# EAGLE library part FT232R (library FT232R)
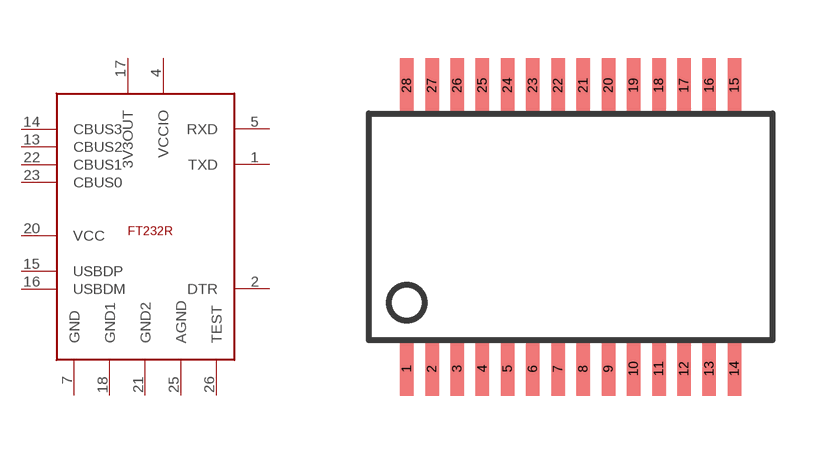
[diagram p0: symbol with the pads of SSOP-28; footprint SSOP-28]

Designator prefix -

## FT232RFTR232R  [SSOP-28]
1  TXD
2  DTR
4  VCCIO
5  RXD
7  GND
13  CBUS2
14  CBUS3
15  USBDP
16  USBDM
17  3V3OUT
18  GND1
20  VCC
21  GND2
22  CBUS1
23  CBUS0
25  AGND
26  TEST

## Footprint SSOP-28 (pad centres in mm)
SSOP28
smd 0.348 x 1.397: 1 -4.225,-3.656; 2 -3.575,-3.656; 3 -2.925,-3.656; 4 -2.275,-3.656; 5 -1.625,-3.656; 6 -0.975,-3.656; 7 -0.325,-3.656; 8 0.325,-3.656; 9 0.975,-3.656; 10 1.625,-3.656; 11 2.275,-3.656; 12 2.925,-3.656; 13 3.575,-3.656; 14 4.225,-3.656; 15 4.225,3.656; 16 3.575,3.656; 17 2.925,3.656; 18 2.275,3.656; 19 1.625,3.656; 20 0.975,3.656; 21 0.325,3.656; 22 -0.325,3.656; 23 -0.975,3.656; 24 -1.625,3.656; 25 -2.275,3.656; 26 -2.925,3.656; 27 -3.575,3.656; 28 -4.225,3.656